# Altium schematic symbol library sym-0026.SchLib: 1 symbol
Pins are listed as number, name and electrical type; pins without a type are passive.

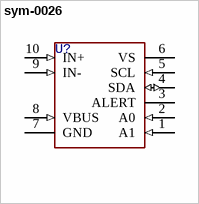
[diagram p0: symbol sym-0026]

## sym-0026
designator U?
INA226AIDGS, CSD202
pins: 1 A1 (in) "Address pin. Connect to GND, SCL, SDA, or VS.", 2 A0 (in) "Address pin. Connect to GND, SCL, SDA, or VS.", 3 ALERT (oc) "Multi-functional alert, open-drain output.", 4 SDA (io) "Serial bus data line, open-drain input/output.", 5 SCL (in) "Serial bus clock line, open-drain input.", 6 VS (power) "Power supply, 2.7V to 5.5V.", 7 GND (power) "Ground.", 8 VBUS (in) "Bus voltage input.", 9 IN- (in) "Negative differential shunt voltage. Connect to negative side of shunt resistor.", 10 IN+ (in) "Positive differential shunt voltage. Connect to positive side of shunt resistor."